# Altium footprint library QUTMS_STM32Library.PcbLib: 3 footprints
Each footprint in its own frame and in the unit in brackets; x right, y up, seen from the top. Pads: shape width x height; smd on the part's side, far side on the other; paste and mask are expansions set on the pad; w line width, h text height; cw(c..) or ccw(c..) is an arc to the next point about the centre after c.
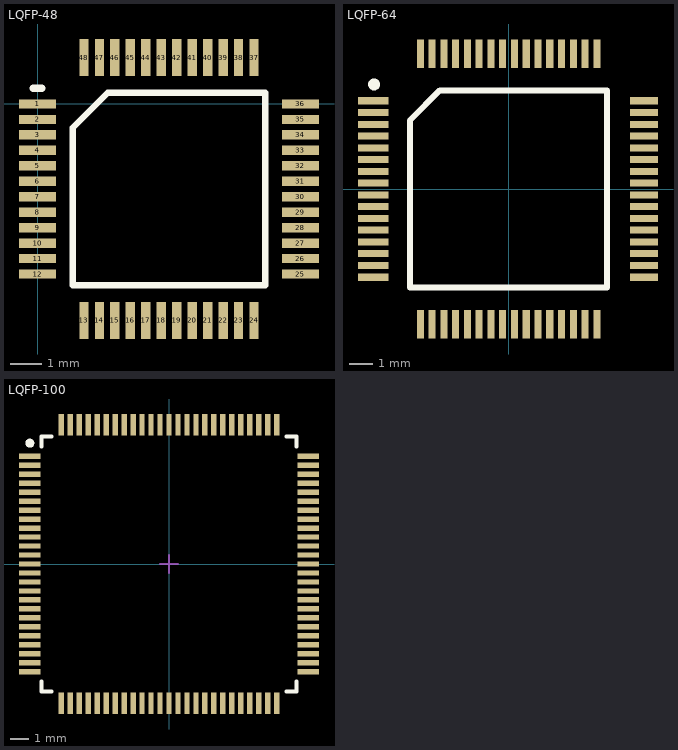
[diagram p0: the footprints below, top view; thin cyan lines are the x and y axes]

## LQFP-48 [mm]
pads (48):
  rect 1.2x0.3 smd: 1(0,0) 2(0,-0.5) 3(0,-1) 4(0,-1.5) 5(0,-2) 6(0,-2.5) 7(0,-3) 8(0,-3.5) 9(0,-4) 10(0,-4.5) 11(0,-5) 12(0,-5.5) 25(8.5,-5.5) 26(8.5,-5) 27(8.5,-4.5) 28(8.5,-4) 29(8.5,-3.5) 30(8.5,-3) 31(8.5,-2.5) 32(8.5,-2) 33(8.5,-1.5) 34(8.5,-1) 35(8.5,-0.5) 36(8.5,0)
  rect 0.3x1.2 smd: 13(1.5,-7) 14(2,-7) 15(2.5,-7) 16(3,-7) 17(3.5,-7) 18(4,-7) 19(4.5,-7) 20(5,-7) 21(5.5,-7) 22(6,-7) 23(6.5,-7) 24(7,-7) 37(7,1.5) 38(6.5,1.5) 39(6,1.5) 40(5.5,1.5) 41(5,1.5) 42(4.5,1.5) 43(4,1.5) 44(3.5,1.5) 45(3,1.5) 46(2.5,1.5) 47(2,1.5) 48(1.5,1.5)
Top Overlay:
  lines w0.2: 1.135,-5.865 7.365,-5.865 7.365,0.365 2.27,0.365 1.135,-0.77 1.135,-5.865
  lines w0.254: -0.127,0.508 0.127,0.508
3D body "LQFP48.STEP": height 1.5, standoff 0, extent -0.27,-7.26 8.757,1.766

## LQFP-64 [mm]
pads (64):
  rect 1.3x0.3 smd: 1(-5.75,3.75) 2(-5.75,3.25) 3(-5.75,2.75) 4(-5.75,2.25) 5(-5.75,1.75) 6(-5.75,1.25) 7(-5.75,0.75) 8(-5.75,0.25) 9(-5.75,-0.25) 10(-5.75,-0.75) 11(-5.75,-1.25) 12(-5.75,-1.75) 13(-5.75,-2.25) 14(-5.75,-2.75) 15(-5.75,-3.25) 16(-5.75,-3.75)
  rect 0.3x1.2 smd: 17(-3.75,-5.75) 18(-3.25,-5.75) 19(-2.75,-5.75) 20(-2.25,-5.75) 21(-1.75,-5.75) 22(-1.25,-5.75) 23(-0.75,-5.75) 24(-0.25,-5.75) 25(0.25,-5.75) 26(0.75,-5.75) 27(1.25,-5.75) 28(1.75,-5.75) 29(2.25,-5.75) 30(2.75,-5.75) 31(3.25,-5.75) 32(3.75,-5.75) 49(3.75,5.75) 50(3.25,5.75) 51(2.75,5.75) 52(2.25,5.75) 53(1.75,5.75) 54(1.25,5.75) 55(0.75,5.75) 56(0.25,5.75) 57(-0.25,5.75) 58(-0.75,5.75) 59(-1.25,5.75) 60(-1.75,5.75) 61(-2.25,5.75) 62(-2.75,5.75) 63(-3.25,5.75) 64(-3.75,5.75)
  rect 1.2x0.3 smd: 33(5.75,-3.75) 34(5.75,-3.25) 35(5.75,-2.75) 36(5.75,-2.25) 37(5.75,-1.75) 38(5.75,-1.25) 39(5.75,-0.75) 40(5.75,-0.25) 41(5.75,0.25) 42(5.75,0.75) 43(5.75,1.25) 44(5.75,1.75) 45(5.75,2.25) 46(5.75,2.75) 47(5.75,3.25) 48(5.75,3.75)
Top Overlay:
  circle w0.254: c-5.715,4.445 r0.127
  lines w0.254: -4.191,-4.191 4.191,-4.191 4.191,4.191 -2.921,4.191 -4.191,2.921 -4.191,-4.191
3D body "LQFP64 v1.step": height 1.6, standoff 0.02, extent -6.069,-6.069 6.069,6.069

## LQFP-100 [mm]
pads (100):
  rect 1.2x0.3 smd paste+0: 1(-7.75,6.001) 2(-7.75,5.501) 3(-7.75,5.001) 4(-7.75,4.501) 5(-7.75,4.001) 6(-7.75,3.501) 7(-7.75,3.001) 8(-7.75,2.501) 9(-7.75,2.001) 10(-7.75,1.501) 11(-7.75,1.001) 12(-7.75,0.501) 13(-7.75,0.001) 14(-7.75,-0.499) 15(-7.75,-0.999) 16(-7.75,-1.499) 17(-7.75,-1.999) 18(-7.75,-2.499) 19(-7.75,-2.999) 20(-7.75,-3.499) 21(-7.75,-3.999) 22(-7.75,-4.499) 23(-7.75,-4.999) 24(-7.75,-5.499) 25(-7.75,-5.999) 51(7.75,-5.999) 52(7.75,-5.499) 53(7.75,-4.999) 54(7.75,-4.499) 55(7.75,-3.999) 56(7.75,-3.499) 57(7.75,-2.999) 58(7.75,-2.499) 59(7.75,-1.999) 60(7.75,-1.499) 61(7.75,-0.999) 62(7.75,-0.499) 63(7.75,0.001) 64(7.75,0.501) 65(7.75,1.001) 66(7.75,1.501) 67(7.75,2.001) 68(7.75,2.501) 69(7.75,3.001) 70(7.75,3.501) 71(7.75,4.001) 72(7.75,4.501) 73(7.75,5.001) 74(7.75,5.501) 75(7.75,6.001)
  rect 0.3x1.2 smd paste+0: 26(-6,-7.749) 27(-5.5,-7.749) 28(-5,-7.749) 29(-4.5,-7.749) 30(-4,-7.749) 31(-3.5,-7.749) 32(-3,-7.749) 33(-2.5,-7.749) 34(-2,-7.749) 35(-1.5,-7.749) 36(-1,-7.749) 37(-0.5,-7.749) 38(0,-7.749) 39(0.5,-7.749) 40(1,-7.749) 41(1.5,-7.749) 42(2,-7.749) 43(2.5,-7.749) 44(3,-7.749) 45(3.5,-7.749) 46(4,-7.749) 47(4.5,-7.749) 48(5,-7.749) 49(5.5,-7.749) 50(6,-7.749) 76(6,7.751) 77(5.5,7.751) 78(5,7.751) 79(4.5,7.751) 80(4,7.751) 81(3.5,7.751) 82(3,7.751) 83(2.5,7.751) 84(2,7.751) 85(1.5,7.751) 86(1,7.751) 87(0.5,7.751) 88(0,7.751) 89(-0.5,7.751) 90(-1,7.751) 91(-1.5,7.751) 92(-2,7.751) 93(-2.5,7.751) 94(-3,7.751) 95(-3.5,7.751) 96(-4,7.751) 97(-4.5,7.751) 98(-5,7.751) 99(-5.5,7.751) 100(-6,7.751)
Top Overlay:
  circle w0.25: c-7.747,6.731 r0.125
  lines w0.2: -7.1,-6.524 -7.1,-7.099 -6.525,-7.099 ; -7.1,6.526 -7.1,7.101 -6.525,7.101 ; 6.525,-7.099 7.1,-7.099 7.1,-6.524 ; 6.525,7.101 7.1,7.101 7.1,6.526
Mechanical 16:
  lines w0.1: -0.5,0.001 0.5,0.001 ; 0,-0.499 0,0.501
3D body "IC_STMicroelectronics_STM32F765VIT6_eec.STEP": height 1.6, standoff 0, extent -8.009,-8.008 8.009,8.01